# EAGLE library part 338070-12 (library con-te-micro-match)
RECEPTACAL
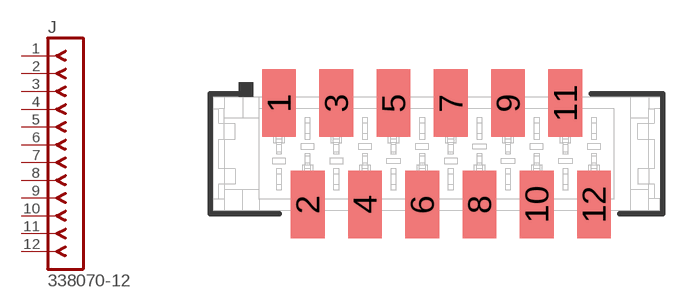
[diagram p3: symbol with the pads of 338070-12; footprint 338070-12]

Designator prefix J

## 338070-12  [338070-12]
1  1  pas
2  2  pas
3  3  pas
4  4  pas
5  5  pas
6  6  pas
7  7  pas
8  8  pas
9  9  pas
10  10  pas
11  11  pas
12  12  pas

## Footprint 338070-12 (pad centres in mm)
RECEPTACAL
smd 1.5 x 3: 1 -6.985,2.25; 2 -5.715,-2.25; 3 -4.445,2.25; 4 -3.175,-2.25; 5 -1.905,2.25; 6 -0.635,-2.25; 7 0.635,2.25; 8 1.905,-2.25; 9 3.175,2.25; 10 4.445,-2.25; 11 5.715,2.25; 12 6.985,-2.25